# Altium footprint library 研发中心PCB库文件.PcbLib: 333 footprints (part 18 of 21)
Each footprint in its own frame and in the unit in brackets; x right, y up, seen from the top. Pads: shape width x height; smd on the part's side, far side on the other; paste and mask are expansions set on the pad; w line width, h text height; cw(c..) or ccw(c..) is an arc to the next point about the centre after c.
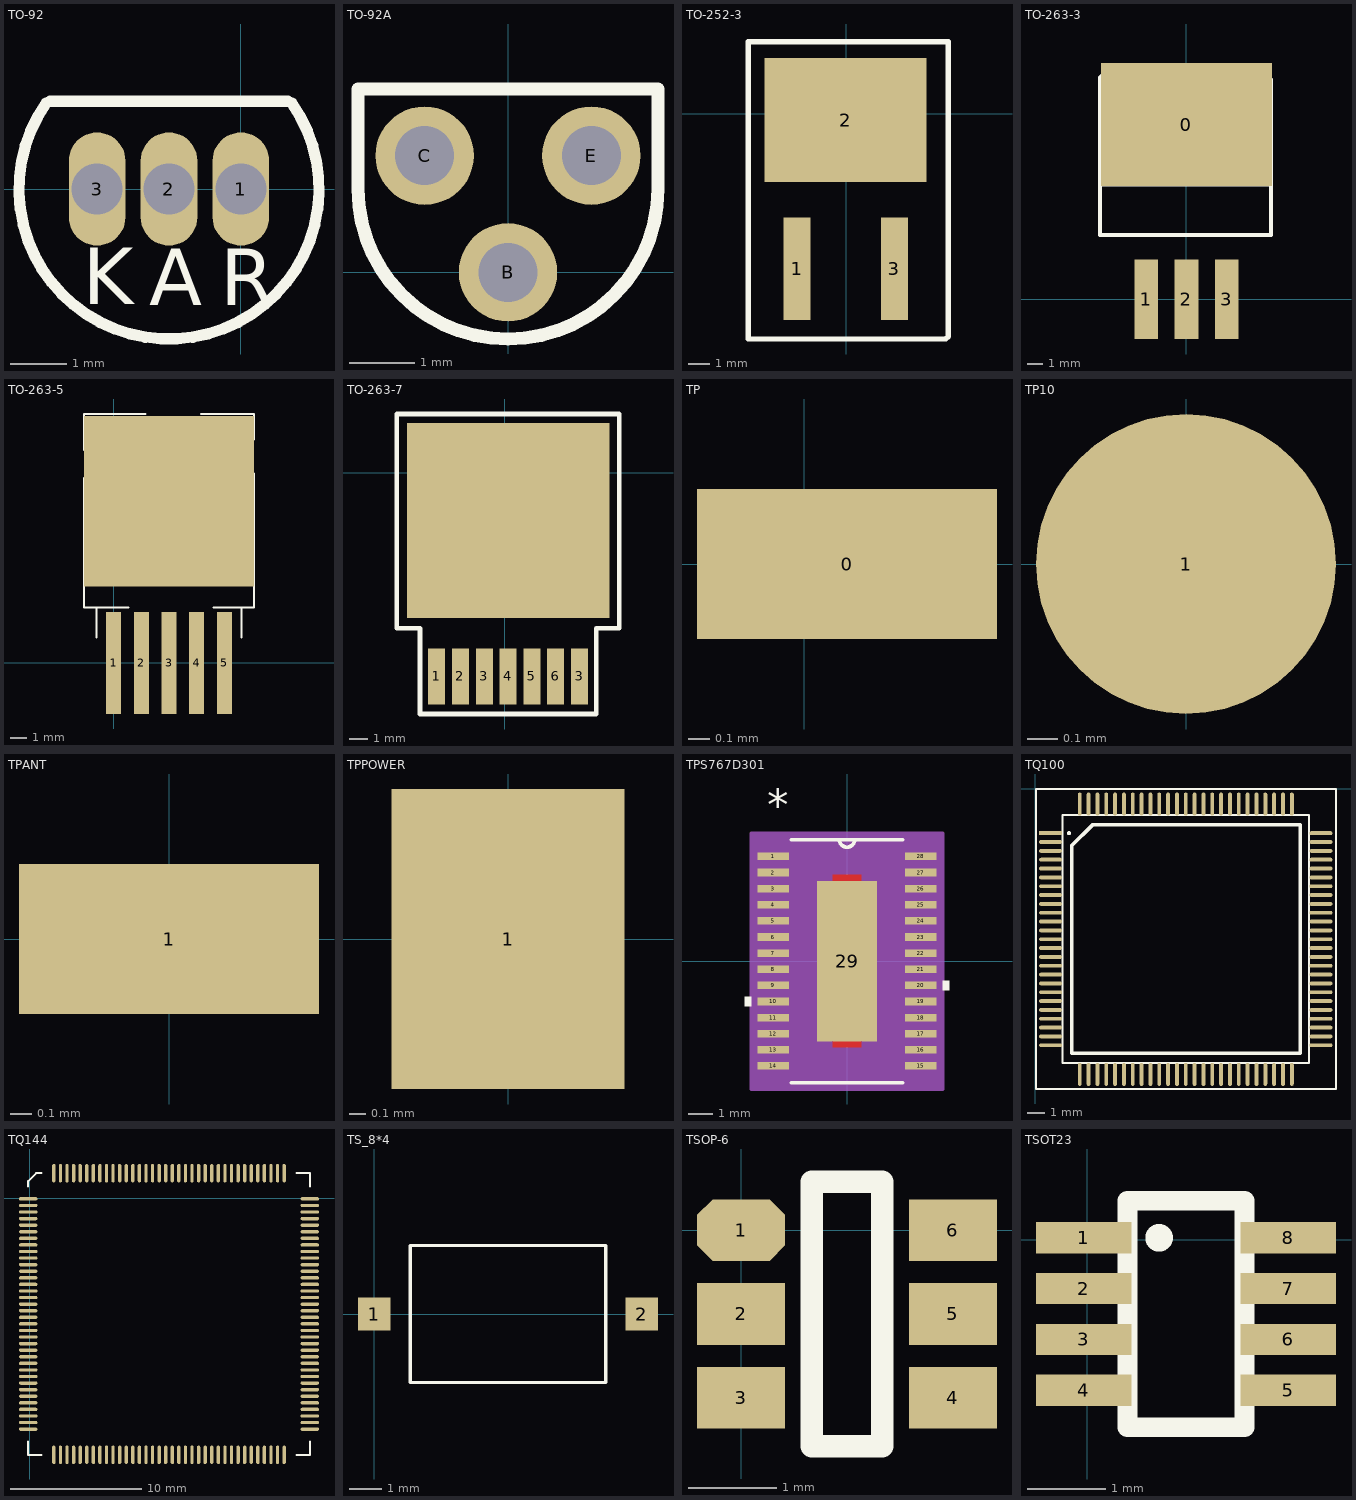
[diagram p17: the footprints below, top view; thin cyan lines are the x and y axes]

## TO-92 [mm]
pads (3):
  oval 1x2 hole 0.9: 1(0,0) 2(-1.27,0) 3(-2.54,0)
Top Overlay:
  lines w0.2: -3.441,1.52 ccw(c-1.27,0) 0.901,1.52 ; -3.37,1.55 0.83,1.55
  text "R" at -0.361,-2.051 h1
  text "K" at -2.795,-2.035 h1
  text "A" at -1.618,-2.051 h1

## TO-92A [mm]
pads (3):
  round 1.5 hole 0.9: B(0,0) C(-1.27,1.778) E(1.27,1.778)
Top Overlay:
  lines w0.203: -2.286,1.27 ccw(c0,1.27) 2.286,1.27 2.286,2.794 -2.286,2.794 -2.286,1.27

## TO-252-3 [mil]
pads (3):
  rect 50x190 smd: 1(-90.67,-286.46) 3(89.33,-286.46)
  rect 300x230 smd: 2(-0.67,-11.46)
Top Overlay:
  lines w10: -180.67,-416.46 184.33,-416.46 189.33,-411.46 189.33,133.54 -180.67,133.54 -180.67,-416.46

## TO-263-3 [mm]
pads (4):
  rect 10.8x7.749 smd: 0(0,11)
  rect 1.5x5 smd: 1(-2.54,0) 2(0,0) 3(2.54,0)
Top Overlay:
  lines w0.254: -5.461,7.239 5.334,7.239 ; -5.461,4.064 -5.461,13.462 -5.461,13.97 -4.699,14.732 4.445,14.732 5.334,13.843 5.334,13.335 5.334,4.064 -5.461,4.064

## TO-263-5 [mil]
pads (6):
  rect 35x240 smd: 1(0,0) 2(65,0) 3(130,0) 4(195,0) 5(260,0)
  rect 400x400 smd: ""(130,380)
Top Overlay:
  lines w5: -70,210 330,210 ; -70,435 -70,130 35,130 ; -70,500 -70,585 75,585 ; -40,60 -40,130 ; 205,585 330,585 330,525 ; 235,130 330,130 330,445 ; 300,60 300,130

## TO-263-7 [mm]
pads (8):
  rect 0.91x3 smd: 1(-3.64,-10.876) 2(-2.37,-10.876) 3(-1.1,-10.876) 3(3.98,-10.876) 4(0.17,-10.876) 5(1.44,-10.876) 6(2.71,-10.876)
  rect 10.81x10.41 smd: ""(0.17,-2.556)
Top Overlay:
  lines w0.254: -4.529,-8.331 -4.529,-12.878 4.869,-12.878 4.869,-8.3 6.096,-8.3 6.096,3.124 -5.766,3.124 -5.766,-8.3 -4.529,-8.3

## TP [mm]
pads (1):
  rect 1.4x0.7 smd: 0(0.2,0)

## TP10 [mm]
pads (1):
  round 1 smd: 1(0,0)
Top Overlay:
  circle w0.025: c0,0 r0.485

## TPANT [mm]
pads (1):
  rect 1.4x0.7 smd: 1(0,0)

## TPPOWER [mm]
pads (1):
  rect 1.4x1.8 smd: 1(0,0)

## TPS767D301 [mil]
pads (29):
  rect 50x12 smd: 1(-117,166.34) 2(-117,140.75) 3(-117,115.16) 4(-117,89.57) 5(-117,63.98) 6(-117,38.39) 7(-117,12.8) 8(-117,-12.8) 9(-117,-38.39) 10(-117,-63.98) 11(-117,-89.57) 12(-117,-115.16) 13(-117,-140.75) 14(-117,-166.34) 15(117,-166.34) 16(117,-140.75) 17(117,-115.16) 18(117,-89.57) 19(117,-63.98) 20(117,-38.39) 21(117,-12.8) 22(117,12.8) 23(117,38.39) 24(117,63.98) 25(117,89.57) 26(117,115.16) 27(117,140.75) 28(117,166.34)
  rect 94.49x254.33 smd: 29(0,0)
Top Layer:
  region: 22.64,127.17 -22.64,127.17 -22.64,137.01 22.64,137.01 22.64,127.17
  region: 22.64,-127.17 -22.64,-127.17 -22.64,-137.01 22.64,-137.01 22.64,-127.17
Top Overlay:
  region: -152,-56.48 -162,-56.48 -162,-71.48 -152,-71.48
  region: 152,-30.89 162,-30.89 162,-45.89 152,-45.89
  lines w6: -88.5,-192.91 88.5,-192.91 ; -88.5,192.91 88.5,192.91 ; -12,192.91 ccw(c0,192.91) 12,192.91
  text "*" at -127,223.34 h50
Top Solder:
  region: 22.64,127.17 -22.64,127.17 -22.64,137.01 22.64,137.01 22.64,127.17
  region: 22.64,-127.17 -22.64,-127.17 -22.64,-137.01 22.64,-137.01 22.64,-127.17
Mechanical 13:
  lines w0: -12,192.91 ccw(c0,192.91) 12,192.91
  text "*" at -127,223.34 h50
Mechanical 15:
  region: 152,-202.91 -152,-202.91 -152,202.91 152,202.91
  lines w6: -152,-202.91 -152,202.91 152,202.91 152,-202.91 -152,-202.91
3D body: height 67.1, standoff 0, extent -130,-192.91 130,192.91

## TQ100 [mm]
pads (100):
  rect 1.3x0.22 smd: 1(0.864,-2.514)
  oval 1.3x0.22 smd: 2(0.864,-3.014) 3(0.864,-3.514) 4(0.864,-4.014) 5(0.864,-4.514) 6(0.864,-5.014) 7(0.864,-5.514) 8(0.864,-6.014) 9(0.864,-6.514) 10(0.864,-7.014) 11(0.864,-7.514) 12(0.864,-8.014) 13(0.864,-8.514) 14(0.864,-9.014) 15(0.864,-9.514) 16(0.864,-10.014) 17(0.864,-10.514) 18(0.864,-11.014) 19(0.864,-11.514) 20(0.864,-12.014) 21(0.864,-12.514) 22(0.864,-13.014) 23(0.864,-13.514) 24(0.864,-14.014) 25(0.864,-14.514) 51(16.164,-14.514) 52(16.164,-14.014) 53(16.164,-13.514) 54(16.164,-13.014) 55(16.164,-12.514) 56(16.164,-12.014) 57(16.164,-11.514) 58(16.164,-11.014) 59(16.164,-10.514) 60(16.164,-10.014) 61(16.164,-9.514) 62(16.164,-9.014) 63(16.164,-8.514) 64(16.164,-8.014) 65(16.164,-7.514) 66(16.164,-7.014) 67(16.164,-6.514) 68(16.164,-6.014) 69(16.164,-5.514) 70(16.164,-5.014) 71(16.164,-4.514) 72(16.164,-4.014) 73(16.164,-3.514) 74(16.164,-3.014) 75(16.164,-2.514)
  oval 0.22x1.3 smd: 26(2.514,-16.164) 27(3.014,-16.164) 28(3.514,-16.164) 29(4.014,-16.164) 30(4.514,-16.164) 31(5.014,-16.164) 32(5.514,-16.164) 33(6.014,-16.164) 34(6.514,-16.164) 35(7.014,-16.164) 36(7.514,-16.164) 37(8.014,-16.164) 38(8.514,-16.164) 39(9.014,-16.164) 40(9.514,-16.164) 41(10.014,-16.164) 42(10.514,-16.164) 43(11.014,-16.164) 44(11.514,-16.164) 45(12.014,-16.164) 46(12.514,-16.164) 47(13.014,-16.164) 48(13.514,-16.164) 49(14.014,-16.164) 50(14.514,-16.164) 76(14.514,-0.864) 77(14.014,-0.864) 78(13.514,-0.864) 79(13.014,-0.864) 80(12.514,-0.864) 81(12.014,-0.864) 82(11.514,-0.864) 83(11.014,-0.864) 84(10.514,-0.864) 85(10.014,-0.864) 86(9.514,-0.864) 87(9.014,-0.864) 88(8.514,-0.864) 89(8.014,-0.864) 90(7.514,-0.864) 91(7.014,-0.864) 92(6.514,-0.864) 93(6.014,-0.864) 94(5.514,-0.864) 95(5.014,-0.864) 96(4.514,-0.864) 97(4.014,-0.864) 98(3.514,-0.864) 99(3.014,-0.864) 100(2.514,-0.864)
Top Overlay:
  circle w0.127: c1.91,-2.514 r0.051
  lines w0.102: 0.039,-16.989 17.014,-16.989 17.014,-0.014 0.039,-0.014 0.039,-16.989 ; 1.539,-15.514 15.489,-15.514 15.489,-1.489 1.539,-1.489 1.539,-15.514
  lines w0.2: 2.049,-14.979 2.049,-3.234 3.234,-2.049 14.979,-2.049 14.979,-14.979 2.049,-14.979

## TQ144 [mil]
pads (144):
  oct 55x10 smd: 1(-5,-2.4)
  oval 55x10 smd: 2(-5,-22.09) 3(-5,-41.77) 4(-5,-61.46) 5(-5,-81.14) 6(-5,-100.83) 7(-5,-120.51) 8(-5,-140.2) 9(-5,-159.88) 10(-5,-179.57) 11(-5,-199.25) 12(-5,-218.94) 13(-5,-238.62) 14(-5,-258.31) 15(-5,-277.99) 16(-5,-297.68) 17(-5,-317.36) 18(-5,-337.05) 19(-5,-356.73) 20(-5,-376.42) 21(-5,-396.1) 22(-5,-415.79) 23(-5,-435.47) 24(-5,-455.16) 25(-5,-474.84) 26(-5,-494.53) 27(-5,-514.21) 28(-5,-533.9) 29(-5,-553.58) 30(-5,-573.27) 31(-5,-592.95) 32(-5,-612.64) 33(-5,-632.32) 34(-5,-652.01) 35(-5,-671.69) 36(-5,-691.38) 73(837.52,-691.38) 74(837.52,-671.69) 75(837.52,-652.01) 76(837.52,-632.32) 77(837.52,-612.64) 78(837.52,-592.95) 79(837.52,-573.27) 80(837.52,-553.58) 81(837.52,-533.9) 82(837.52,-514.21) 83(837.52,-494.53) 84(837.52,-474.84) 85(837.52,-455.16) 86(837.52,-435.47) 87(837.52,-415.79) 88(837.52,-396.1) 89(837.52,-376.42) 90(837.52,-356.73) 91(837.52,-337.05) 92(837.52,-317.36) 93(837.52,-297.68) 94(837.52,-277.99) 95(837.52,-258.31) 96(837.52,-238.62) 97(837.52,-218.94) 98(837.52,-199.25) 99(837.52,-179.57) 100(837.52,-159.88) 101(837.52,-140.2) 102(837.52,-120.51) 103(837.52,-100.83) 104(837.52,-81.14) 105(837.52,-61.46) 106(837.52,-41.77) 107(837.52,-22.09) 108(837.52,-2.4)
  oval 10x55 smd: 37(71.77,-768.15) 38(91.46,-768.15) 39(111.14,-768.15) 40(130.83,-768.15) 41(150.51,-768.15) 42(170.2,-768.15) 43(189.88,-768.15) 44(209.57,-768.15) 45(229.25,-768.15) 46(248.94,-768.15) 47(268.62,-768.15) 48(288.31,-768.15) 49(307.99,-768.15) 50(327.68,-768.15) 51(347.36,-768.15) 52(367.05,-768.15) 53(386.73,-768.15) 54(406.42,-768.15) 55(426.1,-768.15) 56(445.79,-768.15) 57(465.47,-768.15) 58(485.16,-768.15) 59(504.84,-768.15) 60(524.53,-768.15) 61(544.21,-768.15) 62(563.9,-768.15) 63(583.58,-768.15) 64(603.27,-768.15) 65(622.95,-768.15) 66(642.64,-768.15) 67(662.32,-768.15) 68(682.01,-768.15) 69(701.69,-768.15) 70(721.38,-768.15) 71(741.06,-768.15) 72(760.75,-768.15) 109(760.75,74.37) 110(741.06,74.37) 111(721.38,74.37) 112(701.69,74.37) 113(682.01,74.37) 114(662.32,74.37) 115(642.64,74.37) 116(622.95,74.37) 117(603.27,74.37) 118(583.58,74.37) 119(563.9,74.37) 120(544.21,74.37) 121(524.53,74.37) 122(504.84,74.37) 123(485.16,74.37) 124(465.47,74.37) 125(445.79,74.37) 126(426.1,74.37) 127(406.42,74.37) 128(386.73,74.37) 129(367.05,74.37) 130(347.36,74.37) 131(327.68,74.37) 132(307.99,74.37) 133(288.31,74.37) 134(268.62,74.37) 135(248.94,74.37) 136(229.25,74.37) 137(209.57,74.37) 138(189.88,74.37) 139(170.2,74.37) 140(150.51,74.37) 141(130.83,74.37) 142(111.14,74.37) 143(91.46,74.37) 144(71.77,74.37)
Top Overlay:
  lines w6: -5,-728.78 -5,-768.15 34.37,-768.15 ; -5,35 -5,50.75 18.62,74.37 34.37,74.37 ; 798.15,-768.15 837.52,-768.15 837.52,-728.78 ; 798.15,74.37 837.52,74.37 837.52,35

## TS_8*4 [mm]
pads (2):
  rect 1x1 smd: 1(0,0) 2(8.2,0)
Top Overlay:
  lines w0.1: 1.1,-2.1 1.1,2.1 7.1,2.1 7.1,-2.1 1.1,-2.1

## TSOP-6 [mm]
height 1
pads (6):
  oct 1x0.7 smd: 1(0,0)
  rect 1x0.7 smd: 2(0,-0.95) 3(0,-1.9) 4(2.4,-1.9) 5(2.4,-0.95) 6(2.4,0)
Top Overlay:
  lines w0.254: 0.8,-2.45 1.6,-2.45 1.6,0.55 0.8,0.55 0.8,-2.45

## TSOT23 [mm]
pads (8):
  rect 1.22x0.4 smd: 1(-0.049,0.027) 2(-0.049,-0.623) 3(-0.049,-1.273) 4(-0.049,-1.923) 5(2.571,-1.923) 6(2.571,-1.273) 7(2.571,-0.623) 8(2.571,0.027)
Top Overlay:
  circle w0.254: c0.917,0.027 r0.05
  lines w0.254: 0.511,-2.398 0.511,0.502 2.011,0.502 2.011,-2.398 0.511,-2.398